# Altium schematic symbol library FSA3357K8X.SchLib: 1 symbol
Pins are listed as number, name and electrical type; pins without a type are passive.

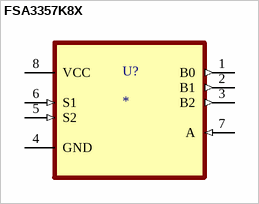
[diagram p0: symbol FSA3357K8X]

## FSA3357K8X
designator U?
SP3T Analog Switch; MP: FSA3357K8X; Package: None; Price: None; Value: *; Availability: Unavailable
footprint SOP50P310X90-8N
pins: 1 B0 (out), 2 B1 (out), 3 B2 (out), 4 GND, 5 S2 (in), 6 S1 (in), 7 A (in), 8 VCC (power)